# Altium footprint library PQFN50P200X200X80-10N.PcbLib: 1 footprints
Each footprint in its own frame and in the unit in brackets; x right, y up, seen from the top. Pads: shape width x height; smd on the part's side, far side on the other; paste and mask are expansions set on the pad; w line width, h text height; cw(c..) or ccw(c..) is an arc to the next point about the centre after c.
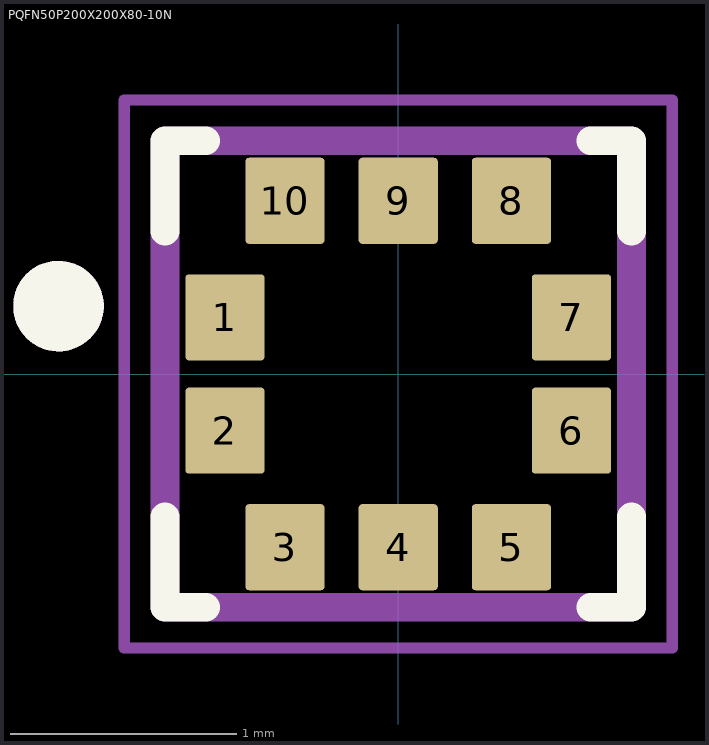
[diagram p0: the footprint, top view; thin cyan lines are the x and y axes]

## PQFN50P200X200X80-10N [mm]
pads (10):
  rrect9% 0.35x0.38 smd: 1(-0.765,0.25) 2(-0.765,-0.25) 3(-0.5,-0.765) 4(0,-0.765) 5(0.5,-0.765) 6(0.765,-0.25) 7(0.765,0.25) 8(0.5,0.765) 9(0,0.765) 10(-0.5,0.765)
Top Overlay:
  circle w0.2: c-1.5,0.3 r0.1
  lines w0.127: -1.03,-0.63 -1.03,-1.03 -0.85,-1.03 ; -1.03,0.63 -1.03,1.03 -0.85,1.03 ; 0.85,-1.03 1.03,-1.03 1.03,-0.63 ; 0.85,1.03 1.03,1.03 1.03,0.63
Mechanical 13:
  circle w0.2: c-1.5,0.3 r0.1
  lines w0.127: -1.03,-1.03 1.03,-1.03 1.03,1.03 -1.03,1.03 -1.03,-1.03
Mechanical 15:
  lines w0.05: -1.21,-1.21 1.21,-1.21 1.21,1.21 -1.21,1.21 -1.21,-1.21